# EAGLE library part STM32G431C6T6 (library STM32G431C6T6)
Arm Cortex-M4 32-bit MCU+FPU, 170 MHz /213 DMIPS, up to 128 KB Flash, 32 KB SRAM, rich analog, math accelerator Source: Datasheet <https://www.st.com/resource/en/datasheet/stm32g431c6.pdf>
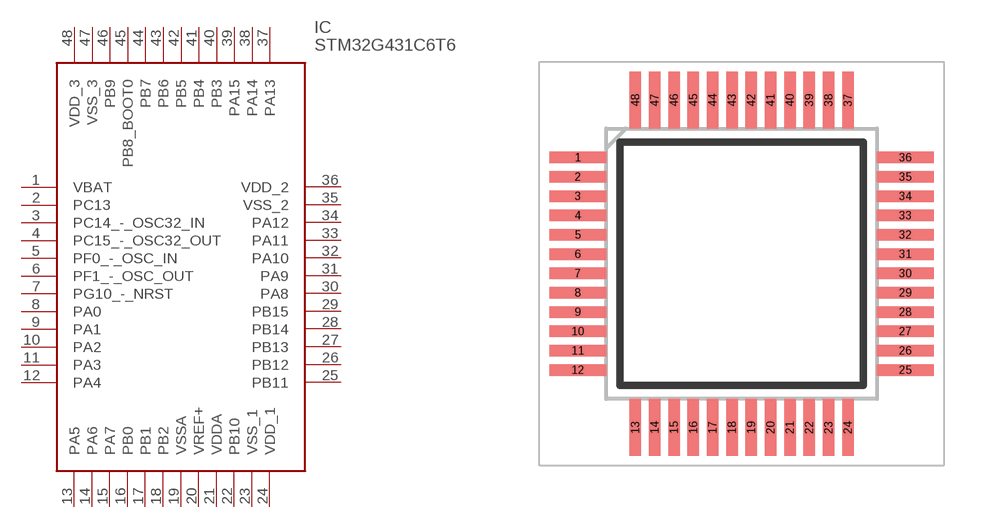
[diagram p0: symbol with the pads of QFP50P900X900X160-48N; footprint QFP50P900X900X160-48N]

Designator prefix IC

## STM32G431C6T6 (Arrow_Part_Number: STM32G431C6T6; Arrow_Price-Stock: https://www.arrow.com/en/products/stm32g431c6t6/stmicroelectronics?utm_currency=USD&region=nac; Description: Arm Cortex-M4 32-bit MCU+FPU, 170 MHz /213 DMIPS, up to 128 KB Flash, 32 KB SRAM, rich analog, math accelerator; Height: 1.6mm; Manufacturer_Name: STMicroelectronics; Manufacturer_Part_Number: STM32G431C6T6; Mouser_Part_Number: 511-STM32G431C6T6; Mouser_Price-Stock: https://www.mouser.co.uk/ProductDetail/STMicroelectronics/STM32G431C6T6?qs=uwxL4vQweFMIHkXLHKxSFQ%3D%3D)  [QFP50P900X900X160-48N]
1  VBAT
2  PC13
3  PC14_-_OSC32_IN
4  PC15_-_OSC32_OUT
5  PF0_-_OSC_IN
6  PF1_-_OSC_OUT
7  PG10_-_NRST
8  PA0
9  PA1
10  PA2
11  PA3
12  PA4
13  PA5
14  PA6
15  PA7
16  PB0
17  PB1
18  PB2
19  VSSA
20  VREF+
21  VDDA
22  PB10
23  VSS_1
24  VDD_1
25  PB11
26  PB12
27  PB13
28  PB14
29  PB15
30  PA8
31  PA9
32  PA10
33  PA11
34  PA12
35  VSS_2
36  VDD_2
37  PA13
38  PA14
39  PA15
40  PB3
41  PB4
42  PB5
43  PB6
44  PB7
45  PB8_BOOT0
46  PB9
47  VSS_3
48  VDD_3

## Footprint QFP50P900X900X160-48N (pad centres in mm)
48-LQFP (7x7)
smd 1.475 x 0.3: 1 -4.238,2.75; 2 -4.238,2.25; 3 -4.238,1.75; 4 -4.238,1.25; 5 -4.238,0.75; 6 -4.238,0.25; 7 -4.238,-0.25; 8 -4.238,-0.75; 9 -4.238,-1.25; 10 -4.238,-1.75; 11 -4.238,-2.25; 12 -4.238,-2.75; 25 4.238,-2.75; 26 4.238,-2.25; 27 4.238,-1.75; 28 4.238,-1.25; 29 4.238,-0.75; 30 4.238,-0.25; 31 4.238,0.25; 32 4.238,0.75; 33 4.238,1.25; 34 4.238,1.75; 35 4.238,2.25; 36 4.238,2.75
smd 0.3 x 1.475: 13 -2.75,-4.238; 14 -2.25,-4.238; 15 -1.75,-4.238; 16 -1.25,-4.238; 17 -0.75,-4.238; 18 -0.25,-4.238; 19 0.25,-4.238; 20 0.75,-4.238; 21 1.25,-4.238; 22 1.75,-4.238; 23 2.25,-4.238; 24 2.75,-4.238; 37 2.75,4.238; 38 2.25,4.238; 39 1.75,4.238; 40 1.25,4.238; 41 0.75,4.238; 42 0.25,4.238; 43 -0.25,4.238; 44 -0.75,4.238; 45 -1.25,4.238; 46 -1.75,4.238; 47 -2.25,4.238; 48 -2.75,4.238